# EAGLE library part M25PX16 (library Pinoccio)
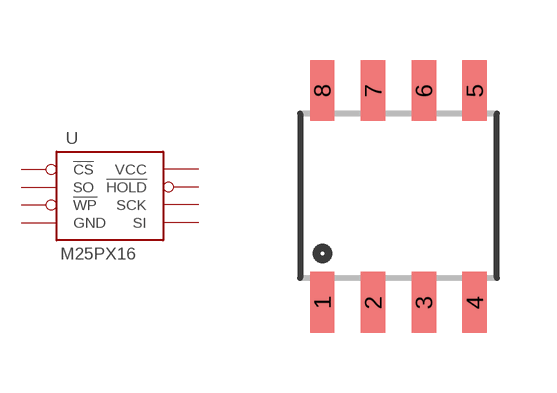
[diagram p10: symbol with the pads of SO8N; footprint SO8N]

Designator prefix -

## M25PX16SO8N  [SO8N]
1  !CS
2  SO
3  !WP
4  GND
5  SI
6  SCK
7  !HOLD
8  VCC

## Footprint SO8N (pad centres in mm)
Fits EIAJ packages (normal version of the SO8N).
smd 0.61 x 1.524: 1 -1.905,-2.678; 2 -0.635,-2.678; 3 0.635,-2.678; 4 1.905,-2.678; 5 1.905,2.621; 6 0.635,2.621; 7 -0.635,2.621; 8 -1.905,2.621